# Altium footprint library TPS7H2201-SP.PcbLib: 1 footprints
Each footprint in its own frame and in the unit in brackets; x right, y up, seen from the top. Pads: shape width x height; smd on the part's side, far side on the other; paste and mask are expansions set on the pad; w line width, h text height; cw(c..) or ccw(c..) is an arc to the next point about the centre after c.
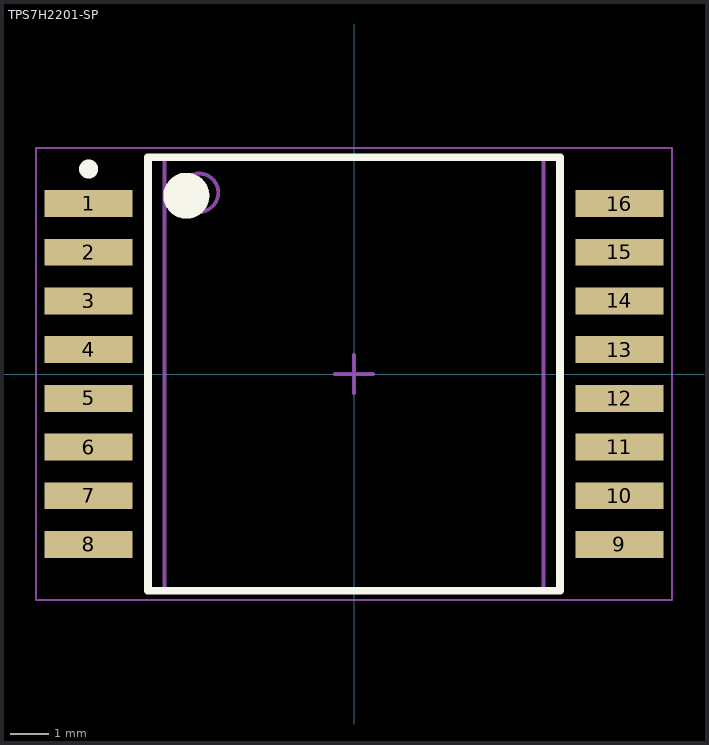
[diagram p0: the footprint, top view; thin cyan lines are the x and y axes]

## TPS7H2201-SP [mm]
height 2.34
pads (16):
  rect 2.3x0.7 smd: 1(-6.925,4.445) 2(-6.925,3.175) 3(-6.925,1.905) 4(-6.925,0.635) 5(-6.925,-0.635) 6(-6.925,-1.905) 7(-6.925,-3.175) 8(-6.925,-4.445) 9(6.925,-4.445) 10(6.925,-3.175) 11(6.925,-1.905) 12(6.925,-0.635) 13(6.925,0.635) 14(6.925,1.905) 15(6.925,3.175) 16(6.925,4.445)
Top Overlay:
  circle w0.25: c-6.925,5.345 r0.125
  circle w0.6: c-4.375,4.65 r0.3
  lines w0.2: -5.375,-5.65 5.375,-5.65 5.375,5.65 -5.375,5.65 -5.375,-5.65
Top Solder:
  rectangle: -3.429,-4.699 3.556,4.445
Mechanical 13:
  circle w0.1: c-4.04,4.73 r0.5
  lines w0.1: -4.94,-5.63 4.94,-5.63 4.94,5.63 -4.94,5.63 -4.94,-5.63
Mechanical 15:
  lines w0.05: -8.3,-5.9 8.3,-5.9 8.3,5.9 -8.3,5.9 -8.3,-5.9
  lines w0.1: -0.5,0 0.5,0 ; 0,-0.5 0,0.5
3D body: height 2.34, standoff 0, extent -4.94,-5.63 4.94,5.63